# Altium footprint library pcb_checked.PcbLib: 89 footprints (part 2 of 6)
Each footprint in its own frame and in the unit in brackets; x right, y up, seen from the top. Pads: shape width x height; smd on the part's side, far side on the other; paste and mask are expansions set on the pad; w line width, h text height; cw(c..) or ccw(c..) is an arc to the next point about the centre after c.
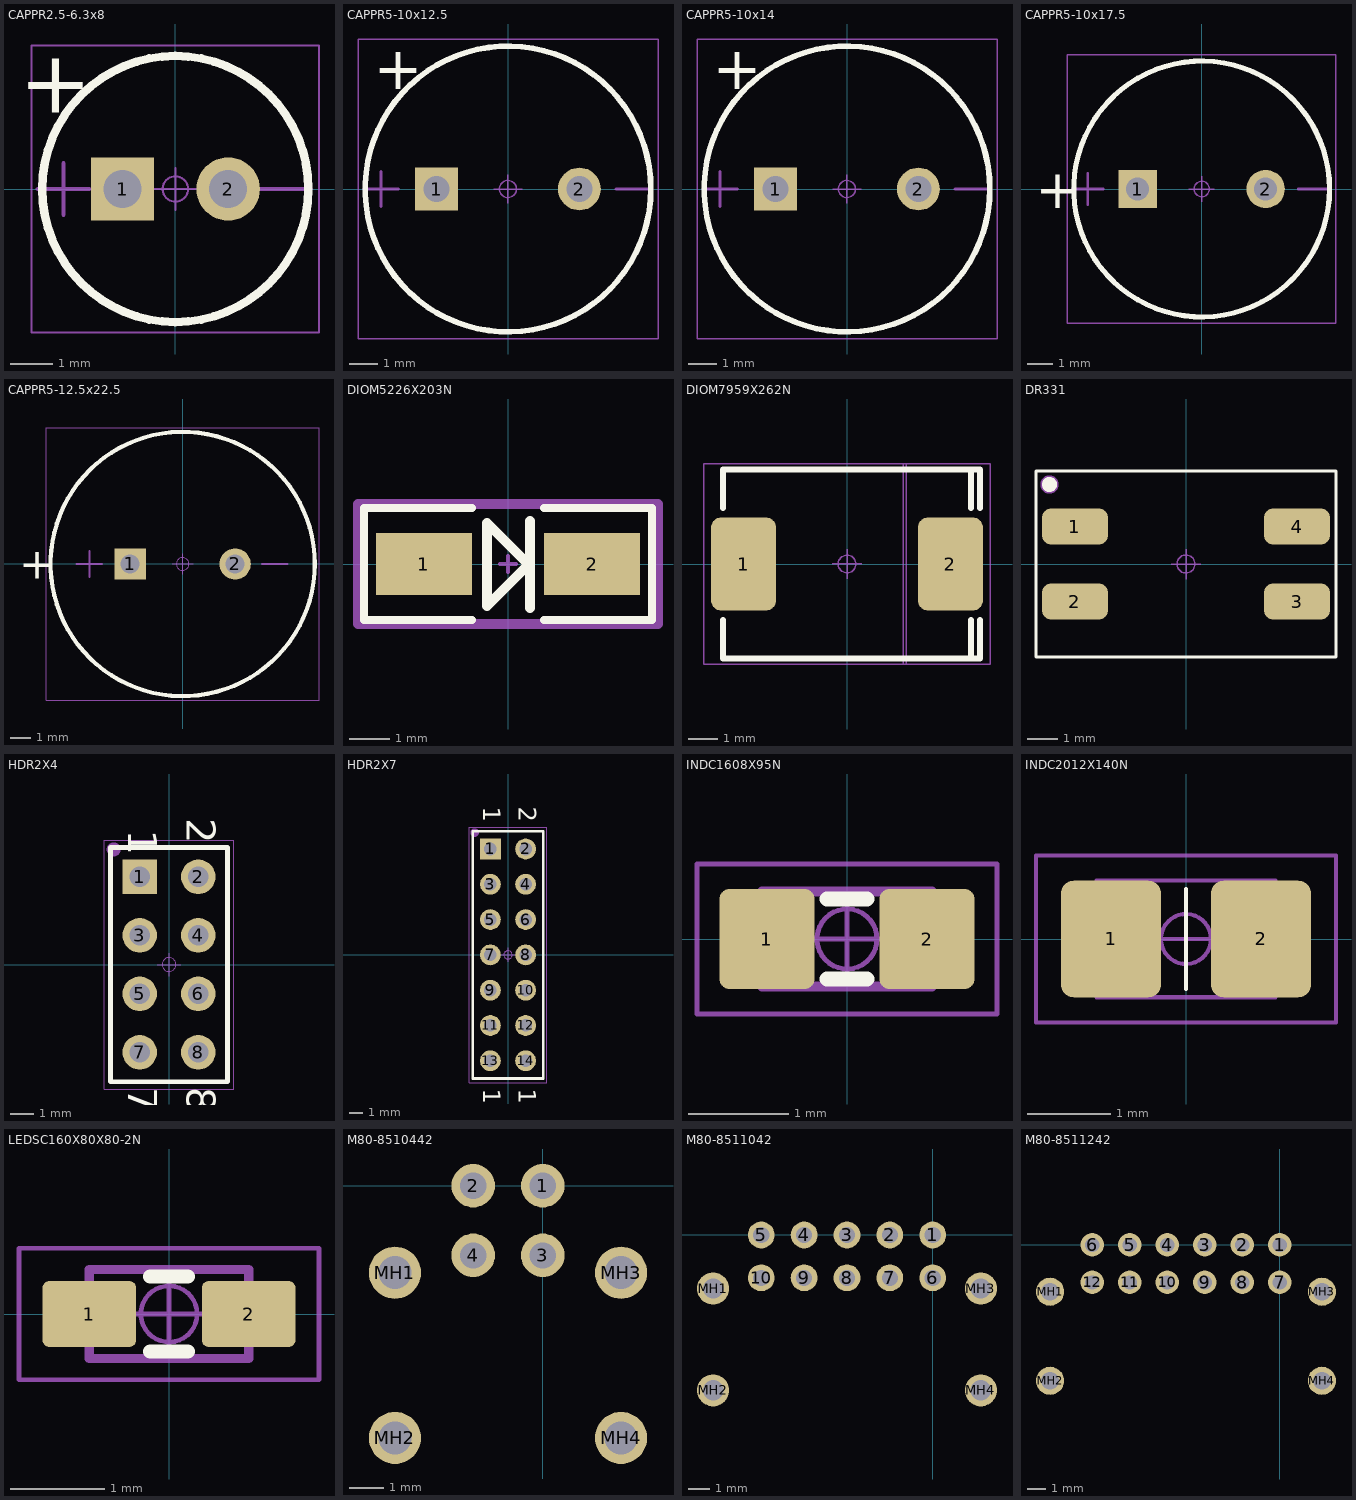
[diagram p1: the footprints below, top view; thin cyan lines are the x and y axes]

## CAPPR2.5-6.3x8 [mm] "Capacitor, Electrolytic, Radial; Body 6.3 x 8 mm (Dia.xH typ); Pin Spacing 2.5 mm (typ)"
height 8
pads (2):
  rect 1.5x1.5 hole 0.9: 1(-1.25,0)
  round 1.5 hole 0.9: 2(1.25,0)
Top Overlay:
  circle w0.2: c0,0 r3.15
  text "+" at -3.7,1.8 h1.5
Mechanical 15:
  circle w0.05: c0,0 r0.3
  lines w0.05: -0.5,0 0.5,0 ; 0,-0.5 0,0.5 ; -3.4,-3.4 3.4,-3.4 3.4,3.4 -3.4,3.4 -3.4,-3.4
  lines w0.1: -3.258,0 -2.038,0 ; -2.648,-0.61 -2.648,0.61 ; 1.981,0 3.2,0
  text ".Designator" at -2.9,-2.8 h1
3D body: height 8, standoff 0, extent -3.138,-3.15 3.138,3.138

## CAPPR5-10x12.5 [mm] "Capacitor, Electrolytic, Radial; Body 10 x 12.5 mm (Dia.xH typ); Pin Spacing 5 mm (typ)"
height 12.5
pads (2):
  rect 1.5x1.5 hole 0.9: 1(-2.5,0)
  round 1.5 hole 0.9: 2(2.5,0)
Top Overlay:
  circle w0.2: c0,0 r5
  text "+" at -4.7,3.5 h1.5
Mechanical 15:
  circle w0.05: c0,0 r0.3
  lines w0.05: -0.5,0 0.5,0 ; 0,-0.5 0,0.5 ; -5.25,-5.25 -5.25,5.25 5.25,5.25 5.25,-5.25 -5.25,-5.25
  lines w0.1: -5.058,0 -3.838,0 ; -4.448,-0.61 -4.448,0.61 ; 3.781,0 5,0
  text ".Designator" at -5,-5 h1
3D body: height 12.5, standoff 0, extent -5.047,-5.037 4.953,4.963

## CAPPR5-10x14 [mm] "Capacitor, Electrolytic, Radial; Body 10 x 14 mm (Dia.xH typ); Pin Spacing 5 mm (typ)"
height 14
pads (2):
  rect 1.5x1.5 hole 0.9: 1(-2.5,0)
  round 1.5 hole 0.9: 2(2.5,0)
Top Overlay:
  circle w0.2: c0,0 r5
  text "+" at -4.7,3.5 h1.5
Mechanical 15:
  circle w0.05: c0,0 r0.3
  lines w0.05: -0.5,0 0.5,0 ; 0,-0.5 0,0.5 ; -5.25,-5.25 5.25,-5.25 5.25,5.25 -5.25,5.25 -5.25,-5.25
  lines w0.1: -5.058,0 -3.838,0 ; -4.448,-0.61 -4.448,0.61 ; 3.781,0 5,0
  text ".Designator" at -5,-5 h1
3D body: height 14, standoff 0, extent -5.047,-5.037 4.953,4.963

## CAPPR5-10x17.5 [mm] "Capacitor, Electrolytic, Radial; Body 10 x 17.5 mm (Dia.xH typ); Pin Spacing 5 mm (typ)"
height 17.5
pads (2):
  rect 1.5x1.5 hole 0.9: 1(-2.5,0)
  round 1.5 hole 0.9: 2(2.5,0)
Top Overlay:
  circle w0.2: c0,0 r5
  text "+" at -6.475,-0.75 h1.5
Mechanical 15:
  circle w0.05: c0,0 r0.3
  lines w0.05: -0.5,0 0.5,0 ; 0,-0.5 0,0.5 ; -5.25,-5.25 -5.25,5.25 5.25,5.25 5.25,-5.25 -5.25,-5.25
  lines w0.1: -5.058,0 -3.838,0 ; -4.448,-0.61 -4.448,0.61 ; 3.781,0 5,0
  text ".Designator" at -5,-5 h1
3D body: height 17.5, standoff 0, extent -5.047,-5.035 4.953,4.961

## CAPPR5-12.5x22.5 [mm] "Capacitor, Electrolytic, Radial; Body 12.5 x 22.5 mm (Dia.xH typ); Pin Spacing 5 mm (typ)"
height 22.5
pads (2):
  rect 1.5x1.5 hole 0.9: 1(-2.5,0)
  round 1.5 hole 0.9: 2(2.5,0)
Top Overlay:
  circle w0.2: c0,0 r6.3
  text "+" at -7.8,-0.7 h1.5
Mechanical 15:
  circle w0.05: c0,0 r0.3
  lines w0.05: -0.5,0 0.5,0 ; 0,-0.5 0,0.5 ; -6.5,-6.5 -6.5,6.5 6.5,6.5 6.5,-6.5 -6.5,-6.5
  lines w0.1: -5.058,0 -3.838,0 ; -4.448,-0.61 -4.448,0.61 ; 3.781,0 5,0
  text ".Designator" at -6.1,-6.2 h1
3D body: height 22.5, standoff 0, extent -6.3,-6.297 6.3,6.297

## DIOM5226X203N [mm] "DO-214-AC/SMA; 2 C-Bend Leads; Body 5.3 x 2.6 mm, inc. leads (LxW)"
height 2.34
pads (2):
  rect 2.4x1.55 smd: 1(-2.1,0) 2(2.1,0)
Top Overlay:
  lines w0.2: -0.9,-1.4 -3.6,-1.4 -3.6,1.4 -0.9,1.4 ; 0.9,-1.4 3.6,-1.4 3.6,1.4 0.9,1.4
  lines w0.25: 0.525,0 -0.525,-1.05 -0.525,1.025 0.55,-0.05 ; 0.55,-1.1 0.55,1.075
Mechanical 15:
  lines w0.1: -0.2,0 0.2,0 ; 0,-0.2 0,0.2
  lines w0.254: -3.75,-1.5 3.75,-1.5 3.75,1.5 -3.75,1.5 -3.75,-1.5
  text "K" at 2.54,0.203 h1.02
  text "A" at -3.099,0.203 h1.02
  text ".Designator" at -3.454,-1.067 h1.02
3D body: height 2.03, standoff 0, extent -2.7,-1.3 2.7,1.3

## DIOM7959X262N [mm] "DO-214-AB/SMC; 2 C-Bend Leads; Body 7.9 x 5.9 mm, inc. leads (LxW)"
height 2.62
pads (2):
  rrect30% 2.2x3.15 smd: 1(-3.5,0) 2(3.5,0)
Top Overlay:
  lines w0.2: -4.2,-1.9 -4.2,-3.2 4.2,-3.2 ; -4.2,1.9 -4.2,3.2 4.2,3.2 ; 4.2,-1.9 4.2,-3.2 ; 4.2,1.9 4.2,3.2 ; 4.5,-1.9 4.5,-3.2 4.2,-3.2 ; 4.5,1.9 4.5,3.2 4.2,3.2
Mechanical 15:
  circle w0.05: c0,0 r0.3
  lines w0.05: -0.5,0 0.5,0 ; 0,-0.5 0,0.5 ; 1.9,-3.4 1.9,3.4 2,3.4 2,-3.4 ; -4.85,-3.4 4.85,-3.4 4.85,3.4 -4.85,3.4 -4.85,-3.4
  text ".Designator" at -4.7,-3.2 h1
3D body: height 2.62, standoff 0, extent -4,-3 4,3

## DR331 [mm] "DR331 inductor"
height 5.3
pads (4):
  rrect50% 2.2x1.2 smd: 1(-3.7,1.25) 2(-3.7,-1.25) 3(3.7,-1.25) 4(3.7,1.25)
Top Overlay:
  circle w0.25: c-4.55,2.65 r0.125
  lines w0.1: -5,-3.1 5,-3.1 5,3.1 -5,3.1 -5,-3.1
Mechanical 15:
  circle w0.406: c-4.55,2.65 r0.1
  circle w0.05: c0,0 r0.3
  lines w0.05: -0.5,0 0.5,0 ; 0,-0.5 0,0.5 ; -5,-3.1 5,-3.1 5,3.1 -5,3.1 -5,-3.1
  text ".Designator" at -4.7,-2.75 h1
3D body: height 5.3, standoff 0, extent -3.7,-2.85 3.7,2.85

## HDR2X4 [mm] "Connector; Header; 4x2 Position"
height 6.35
pads (8):
  rect 1.5x1.5 hole 0.9: 1(-1.27,3.81)
  round 1.5 hole 0.9: 2(1.27,3.81) 3(-1.27,1.27) 4(1.27,1.27) 5(-1.27,-1.27) 6(1.27,-1.27) 7(-1.27,-3.81) 8(1.27,-3.81)
Top Overlay:
  lines w0.2: -2.54,-5.08 -2.54,5.08 2.54,5.08 2.54,-5.08 -2.54,-5.08
  text "2" at 0.762,6.35 h1.27
  text "1" at -1.778,5.842 h1.27
  text "7" at -1.778,-5.334 h1.27
  text "8" at 0.762,-5.334 h1.27
Mechanical 15:
  circle w0.05: c0,0 r0.3
  circle w0.406: c-2.4,5 r0.1
  lines w0.05: -0.5,0 0.5,0 ; 0,-0.5 0,0.5 ; -2.8,-5.4 2.8,-5.4 2.8,5.4 -2.8,5.4 -2.8,-5.4
  text ".Designator" at -2.6,-4.6 h1
3D body "m20-9980446_asm.stp": height 8.7, standoff -2.98, extent -2.54,-5.1 2.54,5.06

## HDR2X7 [mm] "Connector; Header; 7x2 Position"
height 6.35
pads (14):
  rect 1.5x1.5 hole 0.9: 1(-1.27,7.62)
  round 1.5 hole 0.9: 2(1.27,7.62) 3(-1.27,5.08) 4(1.27,5.08) 5(-1.27,2.54) 6(1.27,2.54) 7(-1.27,0) 8(1.27,0) 9(-1.27,-2.54) 10(1.27,-2.54) 11(-1.27,-5.08) 12(1.27,-5.08) 13(-1.27,-7.62) 14(1.27,-7.62)
Top Overlay:
  lines w0.2: -2.54,-8.89 2.54,-8.89 2.54,8.89 -2.54,8.89 -2.54,-8.89
  text "2" at 0.762,10.668 h1.27
  text "1" at -1.778,10.668 h1.27
  text "14" at 0.762,-9.652 h1.27
  text "13" at -1.778,-9.652 h1.27
Mechanical 15:
  circle w0.406: c-2.4,8.8 r0.1
  circle w0.05: c0,0 r0.3
  lines w0.05: -0.5,0 0.5,0 ; 0,-0.5 0,0.5 ; -2.8,-9.2 -2.8,9.2 2.8,9.2 2.8,-9.2 -2.8,-9.2
  text ".Designator" at -2.6,-8.7 h1
3D body "m20-9980746_asm.stp": height 8.7, standoff -2.98, extent -2.55,-8.87 2.53,8.91

## INDC1608X95N [mm] "Chip Inductor, Body 1.6x0.8mm, IPC Medium Density"
height 0.95
pads (2):
  rrect20% 0.95x1 smd: 1(-0.8,0) 2(0.8,0)
Top Overlay:
  lines w0.15: -0.2,-0.4 0.2,-0.4 ; -0.2,0.4 0.2,0.4
Mechanical 13:
  lines w0.1: -0.85,-0.475 -0.85,0.475 0.85,0.475 0.85,-0.475 -0.85,-0.475
Mechanical 15:
  circle w0.05: c0,0 r0.3
  lines w0.05: -0.475,0 0.475,0 ; 0,-0.475 0,0.475 ; -1.5,-0.75 -1.5,0.75 1.5,0.75 1.5,-0.75 -1.5,-0.75
  text ".Designator" at -1.35,-0.6 h1
3D body: height 0.95, standoff 0, extent -0.85,-0.475 0.85,0.475

## INDC2012X140N [mm] "Chip Inductor, Body 2.0x1.3mm, IPC Medium Density"
height 1.4
pads (2):
  rrect25% 1.2x1.4 smd: 1(-0.9,0) 2(0.9,0)
Top Overlay:
  lines w0.05: 0,-0.6 0,0.6
Mechanical 13:
  lines w0.05: -1.075,-0.7 -1.075,0.7 1.075,0.7 1.075,-0.7 -1.075,-0.7
Mechanical 15:
  circle w0.05: c0,0 r0.3
  lines w0.05: -0.5,0 0.5,0 ; 0,-0.5 0,0.5 ; -1.8,-1 -1.8,1 1.8,1 1.8,-1 -1.8,-1
  text ".Designator" at -1.6,-0.85 h1
3D body: height 1.4, standoff 0, extent -1.075,-0.7 1.075,0.7

## LEDSC160X80X80-2N [mm] "LED,Side Concave;2 pin,1.60mm W X 0.80mm L X 0.80mm H"
height 0.8
pads (2):
  rrect20% 1x0.7 smd: 1(-0.85,0) 2(0.85,0)
Top Overlay:
  lines w0.15: -0.2,-0.4 0.2,-0.4 ; -0.2,0.4 0.2,0.4
Mechanical 13:
  lines w0.1: -0.85,-0.475 0.85,-0.475 0.85,0.475 -0.85,0.475 -0.85,-0.475
Mechanical 15:
  circle w0.05: c0,0 r0.3
  lines w0.05: -0.475,0 0.475,0 ; 0,-0.475 0,0.475 ; -1.6,-0.7 1.6,-0.7 1.6,0.7 -1.6,0.7 -1.6,-0.7
  text ".Designator" at -1.35,-0.6 h1
3D body: height 0.8, standoff 0, extent -0.85,-0.475 0.85,0.475

## M80-8510442 [mm] "Harwin M80 connector"
pads (8):
  round 1.25 hole 0.75 paste+0: 1(0,0) 2(-2,0) 3(0,-2) 4(-2,-2)
  round 1.5 hole 0.95 paste+0: MH1(-4.25,-2.5) MH2(-4.25,-7.25) MH3(2.25,-2.5) MH4(2.25,-7.25)
3D body "m80-0030006.stp": height 5.64, standoff -3, extent -4.57,-7.54 -3.93,-2.16
3D body "m80-0030006.stp": height 5.64, standoff -3, extent 1.93,-7.59 2.57,-2.21
3D body "m80-8510442_asm.stp": height 5.87, standoff -3.17, extent -4.95,-10.85 2.95,0.25

## M80-8511042 [mm] "Harwin M80 connector"
pads (14):
  round 1.25 hole 0.75 paste+0: 1(0,0) 2(-2,0) 3(-4,0) 4(-6,0) 5(-8,0) 6(0,-2) 7(-2,-2) 8(-4,-2) 9(-6,-2) 10(-8,-2)
  round 1.5 hole 0.95 paste+0: MH1(-10.25,-2.5) MH2(-10.25,-7.25) MH3(2.25,-2.5) MH4(2.25,-7.25)
3D body "m80-8511042_asm.stp": height 5.87, standoff -3.17, extent -10.95,-10.85 2.95,0.25
3D body "m80-0030006.stp": height 5.64, standoff -3, extent 1.93,-7.59 2.57,-2.21
3D body "m80-0030006.stp": height 5.64, standoff -3, extent -10.57,-7.54 -9.93,-2.16

## M80-8511242 [mm] "Harwin M80 connector"
pads (16):
  round 1.25 hole 0.75 paste+0: 1(0,0) 2(-2,0) 3(-4,0) 4(-6,0) 5(-8,0) 6(-10,0) 7(0,-2) 8(-2,-2) 9(-4,-2) 10(-6,-2) 11(-8,-2) 12(-10,-2)
  round 1.5 hole 0.95 paste+0: MH1(-12.25,-2.5) MH2(-12.25,-7.25) MH3(2.25,-2.5) MH4(2.25,-7.25)
3D body "m80-0030006.stp": height 5.64, standoff -3, extent -12.57,-7.54 -11.93,-2.16
3D body "m80-0030006.stp": height 5.64, standoff -3, extent 1.93,-7.59 2.57,-2.21
3D body "m80-8511242_asm.stp": height 5.87, standoff -3.17, extent -12.95,-10.85 2.95,0.25